# EAGLE library part ADC_AD7780 (library microbuilder)
AD7780 - Low-Power 24-Bit Signma-Delta ADC Converter with 128x PGA For use with load cells TSSOP16 = 5.0x4.4mm package - Digikey: AD7780BRUZ-ND SOIC14 = 8.70x3.9mm package - Digikey: AD7780BRZ-ND
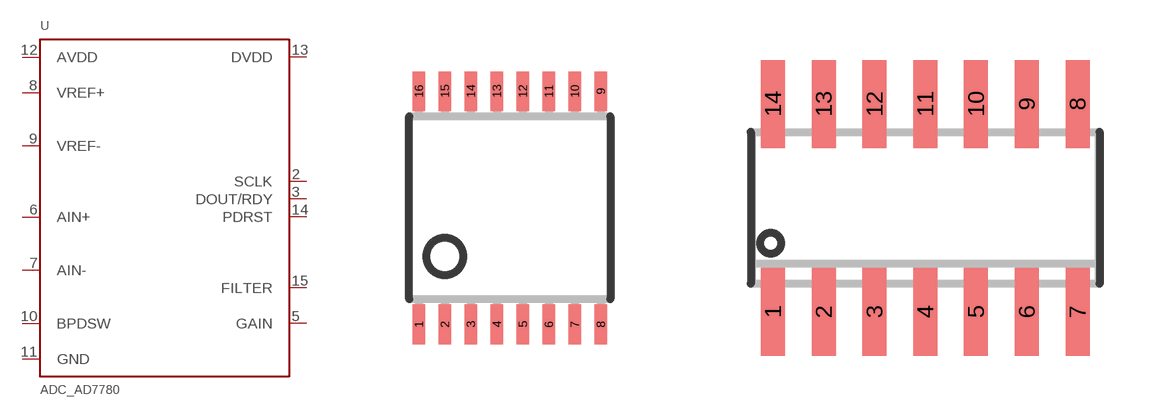
[diagram p81: symbol with the pads of TSSOP16; footprints TSSOP16, SOIC14]

Designator prefix U

## ADC_AD7780  [TSSOP16]
2  SCLK
3  DOUT/RDY
5  GAIN
6  AIN+
7  AIN-
8  VREF+
9  VREF-
10  BPDSW
11  GND
12  AVDD
13  DVDD
14  PDRST
15  FILTER

## ADC_AD7780SOIC  [SOIC14]
1  SCLK
2  DOUT/RDY
4  GAIN
5  AIN+
6  AIN-
7  VREF+
8  VREF-
9  BPDSW
10  GND
11  AVDD
12  DVDD
13  PDRST
14  FILTER

## Footprint TSSOP16 (pad centres in mm)
Thin Shrink Small Outline Plastic 16
smd 0.305 x 0.991: 1 -2.275,-2.918; 2 -1.625,-2.918; 3 -0.975,-2.918; 4 -0.325,-2.918; 5 0.325,-2.918; 6 0.975,-2.918; 7 1.625,-2.918; 8 2.275,-2.918; 9 2.275,2.918; 10 1.625,2.918; 11 0.975,2.918; 12 0.325,2.918; 13 -0.325,2.918; 14 -0.975,2.918; 15 -1.625,2.918; 16 -2.275,2.918

## Footprint SOIC14 (pad centres in mm)
smd 0.6 x 2.2: 1 -3.81,-2.6; 2 -2.54,-2.6; 3 -1.27,-2.6; 4 0,-2.6; 5 1.27,-2.6; 6 2.54,-2.6; 7 3.81,-2.6; 8 3.81,2.6; 9 2.54,2.6; 10 1.27,2.6; 11 0,2.6; 12 -1.27,2.6; 13 -2.54,2.6; 14 -3.81,2.6